# Altium footprint library Inductor.PcbLib: 6 footprints
Each footprint in its own frame and in the unit in brackets; x right, y up, seen from the top. Pads: shape width x height; smd on the part's side, far side on the other; paste and mask are expansions set on the pad; w line width, h text height; cw(c..) or ccw(c..) is an arc to the next point about the centre after c.
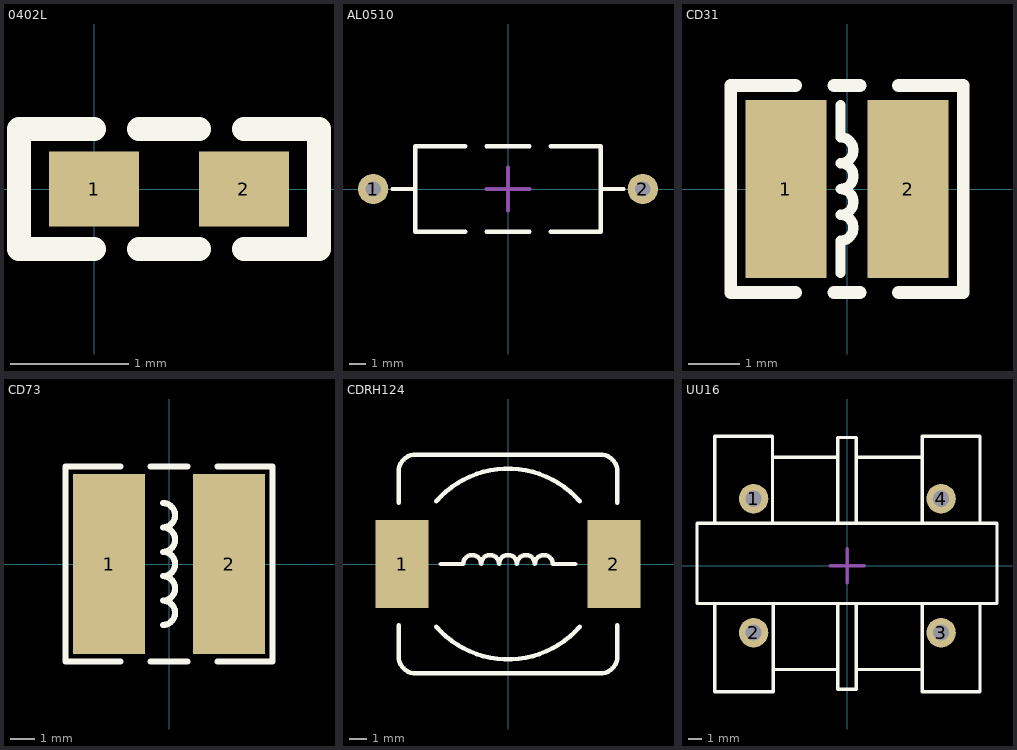
[diagram p0: the footprints below, top view; thin cyan lines are the x and y axes]

## 0402L [mil]
pads (2):
  rect 30x25 smd: 1(0,0) 2(50,0)
Top Overlay:
  lines w8: 0,-20 -25,-20 -25,20 -15,20 0,20 ; 15,-20 35,-20 ; 15,20 35,20 ; 50,-20 75,-20 75,20 50,20
3D body "0402L.STEP": height 19.68, standoff 0, extent 5.31,-9.68 44.69,10

## AL0510 [mm]
pads (2):
  round 1.8 hole 0.9: 1(-8,0) 2(8,0)
Top Overlay:
  lines w0.254: -6.858,0 -5.5,0 ; -2.54,-2.54 -5.5,-2.54 -5.5,2.54 -2.54,2.54 ; -1.27,-2.54 1.27,-2.54 ; -1.27,2.54 1.27,2.54 ; 2.54,-2.54 5.5,-2.54 5.5,2.54 2.54,2.54 ; 5.5,0 6.858,0
Mechanical 15:
  lines w0.254: -1.27,0 1.27,0 ; 0,-1.27 0,1.27
3D body "AL0510.STEP": height 5.06, standoff -3.5, extent -8.318,-2.505 8.382,2.505

## CD31 [mm]
pads (2):
  rect 1.6x3.5 smd: 1(-1.2,0) 2(1.2,0)
Top Overlay:
  lines w0.203: -0.127,-1.651 -0.127,-1.016 ccw(c-0.127,-0.762) -0.127,-0.508 ccw(c-0.127,-0.254) -0.127,0 ccw(c-0.127,0.254) -0.127,0.508 ccw(c-0.127,0.762) -0.127,1.016 -0.127,1.651
  lines w0.254: -1.016,-2.032 -2.286,-2.032 -2.286,2.032 -1.016,2.032 ; -0.254,-2.032 0.254,-2.032 ; -0.254,2.032 0.254,2.032 ; 1.016,-2.032 2.286,-2.032 2.286,2.032 1.016,2.032
3D body "CD31.STEP": height 1.2, standoff 0, extent -1.718,-1.476 1.718,1.524

## CD73 [mm]
pads (2):
  rect 3x7.5 smd: 1(-2.5,0) 2(2.5,0)
Top Overlay:
  lines w0.254: -2.032,-4.064 -4.318,-4.064 -4.318,4.064 -2.032,4.064 ; -0.762,-4.064 0.762,-4.064 ; -0.762,4.064 0.762,4.064 ; -0.254,-2.54 ccw(c-0.254,-2.032) -0.254,-1.524 ccw(c-0.254,-1.016) -0.254,-0.508 ccw(c-0.254,0) -0.254,0.508 ccw(c-0.254,1.016) -0.254,1.524 ccw(c-0.254,2.032) -0.254,2.54 ; 2.032,-4.064 4.318,-4.064 4.318,4.064 2.032,4.064
3D body "CD73.STEP": height 3.75, standoff 0, extent -3.849,-3.19 3.849,3.81

## CDRH124 [mm]
pads (2):
  rect 3x5 smd: 1(-6,0) 2(6,0)
Top Overlay:
  lines w0.254: -6.2,-3.475 -6.2,-5.23 ccw(c-5.23,-5.23) -5.23,-6.2 5.23,-6.2 ccw(c5.23,-5.23) 6.2,-5.23 6.2,-3.475 ; -6.2,3.475 -6.2,5.23 cw(c-5.23,5.23) -5.23,6.2 5.23,6.2 cw(c5.23,5.23) 6.2,5.23 6.2,3.475 ; -4.064,-3.556 ccw(c0,0) 4.064,-3.556 ; -4.064,3.556 cw(c0,0) 4.064,3.556 ; -3.81,0 -2.54,0 cw(c-2.032,0) -1.524,0 cw(c-1.016,0) -0.508,0 cw(c0,0) 0.508,0 cw(c1.016,0) 1.524,0 cw(c2.032,0) 2.54,0 3.81,0
3D body "CDRH124.STEP": height 4.55, standoff 0.05, extent -5.873,-6.031 6.127,5.969

## UU16 [mm]
pads (4):
  round 2.2 hole 1.2: 1(-7,5) 2(-7,-5) 3(7,-5) 4(7,5)
Top Overlay:
  lines w0.254: -9.906,-2.826 -9.906,-9.398 -5.523,-9.398 -5.523,-2.826 ; -9.906,3.174 -9.906,9.652 -5.588,9.652 -5.588,3.174 ; -5.523,-7.749 -0.723,-7.749 ; -5.523,8.097 -0.723,8.097 ; -0.723,-2.826 -0.723,-9.226 0.677,-9.226 0.677,-2.826 ; -0.723,3.174 -0.723,9.574 0.677,9.574 0.677,3.174 ; 0.677,-7.749 5.477,-7.749 ; 0.677,8.097 5.477,8.097 ; 5.588,-2.92 5.588,-9.398 9.906,-9.398 9.906,-2.92 ; 5.588,3.174 5.588,9.652 9.906,9.652 9.906,3.174 ; -11.223,-2.826 11.177,-2.826 11.177,3.174 -11.223,3.174 -11.223,-2.826
Mechanical 15:
  lines w0.254: -1.27,0 1.27,0 ; 0,-1.27 0,1.27
3D body "UU16.STEP": height 22.05, standoff -3.45, extent -11.049,-8.75 10.951,8.75